# Altium footprint library SM_UQFN-10.PcbLib: 1 footprints
Each footprint in its own frame and in the unit in brackets; x right, y up, seen from the top. Pads: shape width x height; smd on the part's side, far side on the other; paste and mask are expansions set on the pad; w line width, h text height; cw(c..) or ccw(c..) is an arc to the next point about the centre after c.
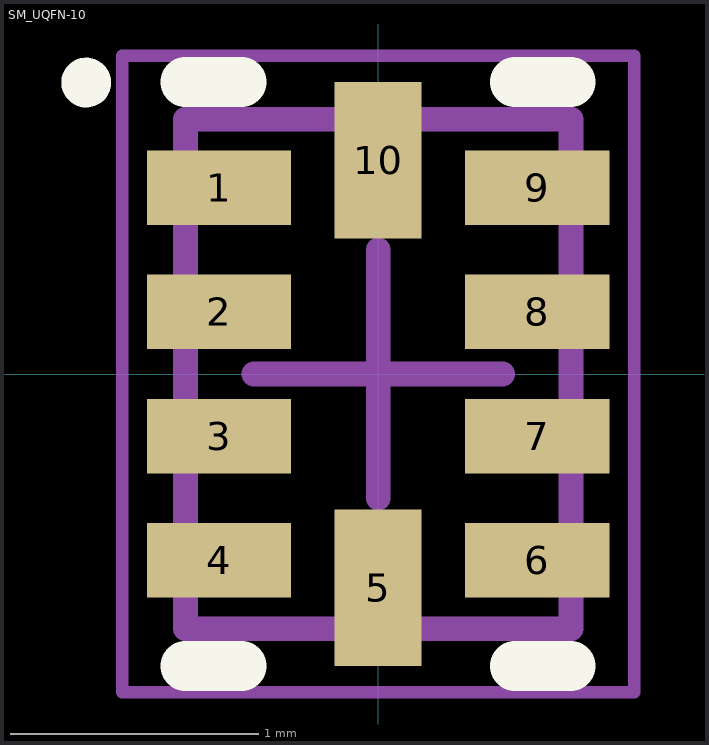
[diagram p0: the footprint, top view; thin cyan lines are the x and y axes]

## SM_UQFN-10 [mm] "TI USB Switch IC"
pads (10):
  rect 0.58x0.3 smd paste-0.025 mask+0.05: 1(-0.64,0.75) 2(-0.64,0.25) 3(-0.64,-0.25) 4(-0.64,-0.75) 6(0.64,-0.75) 7(0.64,-0.25) 8(0.64,0.25) 9(0.64,0.75)
  rect 0.35x0.63 smd paste-0.025 mask+0.05: 5(0,-0.86) 10(0,0.86)
Top Overlay:
  circle w0.1: c-1.175,1.173 r0.05
  lines w0.2: -0.775,-1.175 -0.55,-1.175 ; -0.775,1.175 -0.55,1.175 ; 0.55,-1.175 0.775,-1.175 ; 0.55,1.175 0.775,1.175
Mechanical 13:
  lines w0.1: -0.775,-1.025 -0.775,1.025 0.775,1.025 0.775,-1.025 -0.775,-1.025
Mechanical 15:
  lines w0.05: -1.03,-1.28 -1.03,1.28 1.03,1.28 1.03,-1.28 -1.03,-1.28
  lines w0.1: -0.5,0 0.5,0 ; 0,-0.5 0,0.5
3D body: height 0.6, standoff 0, extent -0.775,-1.025 0.775,1.025